# Altium footprint library USB_connectors.PcbLib: 4 footprints
Each footprint in its own frame and in the unit in brackets; x right, y up, seen from the top. Pads: shape width x height; smd on the part's side, far side on the other; paste and mask are expansions set on the pad; w line width, h text height; cw(c..) or ccw(c..) is an arc to the next point about the centre after c.
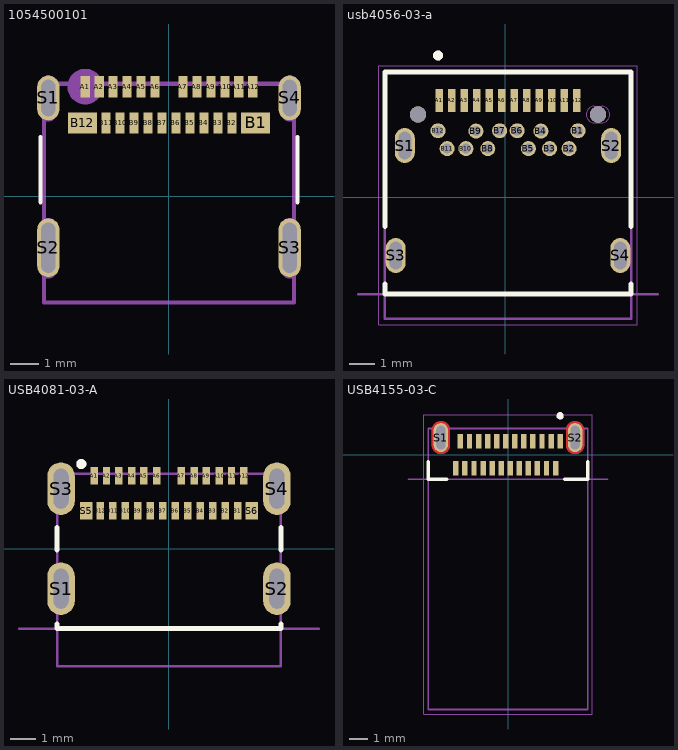
[diagram p0: the footprints below, top view; thin cyan lines are the x and y axes]

## 1054500101 [mil] "molex"
pads (28):
  rect 13x30 smd paste+0 mask+4.02: A1(-117.56,154.44) A2(-97.87,154.44) A3(-78.19,154.44) A4(-58.5,154.44) A5(-38.82,154.44) A6(-19.13,154.44) A7(20.24,154.44) A8(39.92,154.44) A9(59.61,154.44) A10(79.29,154.44) A11(98.98,154.44) A12(118.66,154.44) B2(89.13,103.26) B3(69.45,103.26) B4(49.76,103.26) B5(30.08,103.26) B6(10.39,103.26) B7(-9.29,103.26) B8(-28.98,103.26) B9(-48.66,103.26) B10(-68.35,103.26) B11(-88.03,103.26)
  rect 41x30 smd paste+0 mask+4.02: B1(122.6,103.26) B12(-121.5,103.26)
  oval 31.5x62.99 hole 19.68 slot 51.18 at 90 deg mask+4.02: S1(-169.45,138.49) S4(170.55,138.49)
  oval 31.5x82.68 hole 19.68 slot 70.87 at 90 deg mask+4.02: S2(-169.45,-72.51) S3(170.55,-72.51)
Top Overlay:
  lines w6: -180.45,-8.51 -180.45,83.49 ; 181.55,-8.51 181.55,83.49
Mechanical 1:
  lines w26: -169.45,-102.51 -169.45,-43.51 ; -169.45,118.49 -169.45,157.49 ; 170.55,-102.51 170.55,-43.51 ; 170.55,118.49 170.55,157.49
Mechanical 13:
  lines w6: -175.45,-149.51 176.55,-149.51 176.55,158.49 -175.45,158.49 -175.45,-149.51
  lines w20: -132.45,154.49 ccw(c-117.45,154.49) -102.45,154.49 ccw(c-117.45,154.49) -132.45,154.49
3D body "1054500101--3DModel-STEP-1.STEP": height 125.98, standoff -35.43, extent -175.98,-149.8 175.98,161.22

## usb4056-03-a [mm]
pads (30):
  rect 0.3x0.9 smd: A1(-2.642,3.877) A2(-2.142,3.877) A3(-1.642,3.877) A4(-1.142,3.877) A5(-0.642,3.877) A6(-0.142,3.877) A7(0.358,3.877) A8(0.858,3.877) A9(1.358,3.877) A10(1.858,3.877) A11(2.358,3.877) A12(2.858,3.877)
  round 0.6 hole 0.4: B1(2.908,2.667) B2(2.55,1.95) B3(1.775,1.95) B4(1.425,2.65) B5(0.925,1.95) B6(0.475,2.667) B7(-0.225,2.667) B8(-0.7,1.95) B9(-1.175,2.65) B10(-1.575,1.95) B11(-2.325,1.95) B12(-2.692,2.667)
  oval 0.8x1.4 hole 0.5 slot 1.1 at 90 deg: S1(-4.022,2.077) S2(4.238,2.077) S3(-4.382,-2.323) S4(4.598,-2.323)
  round 0.65 hole 0.65 unplated: ""(-3.492,3.317) ""(3.708,3.317)
Top Overlay:
  circle w0.2: c-2.692,5.677 r0.1
  lines w0.2: -4.817,-3.473 -4.817,-3.873 5.033,-3.873 5.033,-3.473 ; -4.817,-1.173 -4.817,5.017 5.033,5.017 5.033,-1.173
Top Solder:
  region: 3.88,3.741 3.902,3.74 3.924,3.737 3.946,3.733 3.968,3.728 3.989,3.721 4.01,3.714 4.031,3.705 4.051,3.696 4.07,3.685 4.089,3.673 4.108,3.661 4.125,3.647 4.142,3.633 4.159,3.618 4.174,3.601 4.188,3.584 4.202,3.567 4.214,3.548 4.226,3.53 4.237,3.51 4.246,3.49 4.255,3.469 4.262,3.448 4.269,3.427 4.274,3.405 4.278,3.383 4.281,3.361 4.282,3.339 4.283,3.317 4.282,3.295 4.281,3.273 4.278,3.251 4.274,3.229 4.269,3.207 4.262,3.186 4.255,3.165 4.246,3.144 4.237,3.124 4.226,3.105 4.214,3.086 4.202,3.067 4.188,3.05 4.174,3.033 4.159,3.016 4.142,3.001 4.125,2.987 4.108,2.973 4.089,2.961 4.07,2.949 4.051,2.938 4.031,2.929 4.01,2.92 3.989,2.913 3.968,2.906 3.946,2.901 3.924,2.897 3.902,2.894 3.88,2.893 3.858,2.892 3.558,2.892 3.536,2.893 3.514,2.894 3.492,2.897 3.47,2.901 3.448,2.906 3.427,2.913 3.406,2.92 3.385,2.929 3.365,2.938 3.345,2.949 3.327,2.961 3.308,2.973 3.291,2.987 3.274,3.001 3.257,3.016 3.242,3.033 3.228,3.05 3.214,3.067 3.202,3.086 3.19,3.105 3.179,3.124 3.17,3.144 3.161,3.165 3.154,3.186 3.147,3.207 3.142,3.229 3.138,3.251 3.135,3.273 3.134,3.295 3.133,3.317 3.134,3.339 3.135,3.361 3.138,3.383 3.142,3.405 3.147,3.427 3.154,3.448 3.161,3.469 3.17,3.49 3.179,3.51 3.19,3.53 3.202,3.548 3.214,3.567 3.228,3.584 3.242,3.601 3.257,3.618 3.274,3.633 3.291,3.647 3.308,3.661 3.327,3.673 3.345,3.685 3.365,3.696 3.385,3.705 3.406,3.714 3.427,3.721 3.448,3.728 3.47,3.733 3.492,3.737 3.514,3.74 3.536,3.741 3.558,3.742 3.858,3.742
Bottom Solder:
  region: 3.88,3.741 3.902,3.74 3.924,3.737 3.946,3.733 3.968,3.728 3.989,3.721 4.01,3.714 4.031,3.705 4.051,3.696 4.07,3.685 4.089,3.673 4.108,3.661 4.125,3.647 4.142,3.633 4.159,3.618 4.174,3.601 4.188,3.584 4.202,3.567 4.214,3.548 4.226,3.53 4.237,3.51 4.246,3.49 4.255,3.469 4.262,3.448 4.269,3.427 4.274,3.405 4.278,3.383 4.281,3.361 4.282,3.339 4.283,3.317 4.282,3.295 4.281,3.273 4.278,3.251 4.274,3.229 4.269,3.207 4.262,3.186 4.255,3.165 4.246,3.144 4.237,3.124 4.226,3.105 4.214,3.086 4.202,3.067 4.188,3.05 4.174,3.033 4.159,3.016 4.142,3.001 4.125,2.987 4.108,2.973 4.089,2.961 4.07,2.949 4.051,2.938 4.031,2.929 4.01,2.92 3.989,2.913 3.968,2.906 3.946,2.901 3.924,2.897 3.902,2.894 3.88,2.893 3.858,2.892 3.558,2.892 3.536,2.893 3.514,2.894 3.492,2.897 3.47,2.901 3.448,2.906 3.427,2.913 3.406,2.92 3.385,2.929 3.365,2.938 3.345,2.949 3.327,2.961 3.308,2.973 3.291,2.987 3.274,3.001 3.257,3.016 3.242,3.033 3.228,3.05 3.214,3.067 3.202,3.086 3.19,3.105 3.179,3.124 3.17,3.144 3.161,3.165 3.154,3.186 3.147,3.207 3.142,3.229 3.138,3.251 3.135,3.273 3.134,3.295 3.133,3.317 3.134,3.339 3.135,3.361 3.138,3.383 3.142,3.405 3.147,3.427 3.154,3.448 3.161,3.469 3.17,3.49 3.179,3.51 3.19,3.53 3.202,3.548 3.214,3.567 3.228,3.584 3.242,3.601 3.257,3.618 3.274,3.633 3.291,3.647 3.308,3.661 3.327,3.673 3.345,3.685 3.365,3.696 3.385,3.705 3.406,3.714 3.427,3.721 3.448,3.728 3.47,3.733 3.492,3.737 3.514,3.74 3.536,3.741 3.558,3.742 3.858,3.742
Mechanical 1:
  lines w0: 3.233,3.317 ccw(c3.558,3.317) 3.558,2.992 3.858,2.992 ccw(c3.858,3.317) 4.183,3.317 ccw(c3.858,3.317) 3.858,3.642 3.558,3.642 ccw(c3.558,3.317) 3.233,3.317
Mechanical 13:
  circle w0.2: c-2.692,5.677 r0.1
  lines w0.1: -5.892,-3.873 6.108,-3.873 ; -4.817,-4.853 -4.817,5.017 5.033,5.017 5.033,-4.853 -4.817,-4.853
  text "PCB Edge" at 5.608,-3.623 h0.81
Mechanical 15:
  lines w0.05: -5.067,-5.103 -5.067,5.267 5.283,5.267 5.283,-5.103 -5.067,-5.103
3D body "USB4056-03-A--3DModel-STEP-269445.STEP": height 3.31, standoff -1.15, extent -4.8,-4.855 5.05,5.015

## USB4081-03-A [mm] "Type C USB 3.2 Gen 2 Connector"
pads (30):
  rect 0.3x0.7 smd: A1(-2.999,2.921) A2(-2.499,2.921) A3(-1.999,2.921) A4(-1.499,2.921) A5(-0.999,2.921) A6(-0.499,2.921) A7(0.501,2.921) A8(1.001,2.921) A9(1.501,2.921) A10(2.001,2.921) A11(2.501,2.921) A12(3.001,2.921) B1(2.751,1.521) B2(2.251,1.521) B3(1.751,1.521) B4(1.251,1.521) B5(0.751,1.521) B6(0.251,1.521) B7(-0.249,1.521) B8(-0.749,1.521) B9(-1.249,1.521) B10(-1.749,1.521) B11(-2.249,1.521) B12(-2.749,1.521)
  oval 1.1x2.1 hole 0.6 slot 1.6 at 90 deg: S1(-4.319,-1.589) S2(4.321,-1.589) S3(-4.319,2.411) S4(4.321,2.411)
  rect 0.5x0.7 smd: S5(-3.299,1.521) S6(3.301,1.521)
Top Overlay:
  circle w0.2: c-3.507,3.396 r0.1
  lines w0.2: -4.469,-3.009 -4.469,-3.189 4.471,-3.189 4.471,-3.009 ; -4.469,-0.039 -4.469,0.861 ; 4.471,-0.039 4.471,0.861
Mechanical 13:
  circle w0.2: c-3.507,3.396 r0.1
  lines w0.1: -5.999,-3.189 6.001,-3.189 ; -4.469,-4.699 -4.469,3.001 4.471,3.001 4.471,-4.699 -4.469,-4.699
3D body "usb4081-03-a.stp": height 3.26, standoff -1.6, extent -4.47,-4.805 4.47,3

## USB4155-03-C [mm] "USB-C (USB TYPE-C) USB 3.2 Gen 2 (USB 3.1 Gen 2, Superspeed + (USB 3.1)) Plug Connector 24 Position Board Edge, Cutout; Surface Mount; Through Hole, Right Angle"
pads (26):
  rect 0.3x0.8 smd: A1(2.875,0.75) A2(2.375,0.75) A3(1.875,0.75) A4(1.375,0.75) A5(0.875,0.75) A6(0.375,0.75) A7(-0.125,0.75) A8(-0.625,0.75) A9(-1.125,0.75) A10(-1.625,0.75) A11(-2.125,0.75) A12(-2.625,0.75) B1(-2.875,-0.75) B2(-2.375,-0.75) B3(-1.875,-0.75) B4(-1.375,-0.75) B5(-0.875,-0.75) B6(-0.375,-0.75) B7(0.125,-0.75) B8(0.625,-0.75) B9(1.125,-0.75) B10(1.625,-0.75) B11(2.125,-0.75) B12(2.625,-0.75)
  oval 0.8x1.6 hole 0.5 slot 1.3 at 90 deg mask+0: S1(-3.7,0.95) S2(3.7,0.95)
Top Layer:
  region: 3.726,1.849 3.752,1.847 3.778,1.844 3.804,1.839 3.829,1.833 3.855,1.826 3.879,1.817 3.903,1.807 3.927,1.796 3.95,1.783 3.972,1.769 3.994,1.755 4.015,1.739 4.035,1.722 4.054,1.704 4.072,1.685 4.089,1.665 4.105,1.644 4.119,1.622 4.133,1.6 4.146,1.577 4.157,1.553 4.167,1.529 4.176,1.505 4.183,1.479 4.189,1.454 4.194,1.428 4.197,1.402 4.199,1.376 4.2,1.35 4.2,0.55 4.199,0.524 4.197,0.498 4.194,0.472 4.189,0.446 4.183,0.421 4.176,0.395 4.167,0.371 4.157,0.347 4.146,0.323 4.133,0.3 4.119,0.278 4.105,0.256 4.089,0.235 4.072,0.215 4.054,0.196 4.035,0.178 4.015,0.161 3.994,0.145 3.972,0.131 3.95,0.117 3.927,0.104 3.903,0.093 3.879,0.083 3.855,0.074 3.829,0.067 3.804,0.061 3.778,0.056 3.752,0.053 3.726,0.051 3.7,0.05 3.674,0.051 3.648,0.053 3.622,0.056 3.596,0.061 3.571,0.067 3.545,0.074 3.521,0.083 3.497,0.093 3.473,0.104 3.45,0.117 3.428,0.131 3.406,0.145 3.385,0.161 3.365,0.178 3.346,0.196 3.328,0.215 3.311,0.235 3.295,0.256 3.281,0.278 3.267,0.3 3.254,0.323 3.243,0.347 3.233,0.371 3.224,0.395 3.217,0.421 3.211,0.446 3.206,0.472 3.203,0.498 3.201,0.524 3.2,0.55 3.2,1.35 3.201,1.376 3.203,1.402 3.206,1.428 3.211,1.454 3.217,1.479 3.224,1.505 3.233,1.529 3.243,1.553 3.254,1.577 3.267,1.6 3.281,1.622 3.295,1.644 3.311,1.665 3.328,1.685 3.346,1.704 3.365,1.722 3.385,1.739 3.406,1.755 3.428,1.769 3.45,1.783 3.473,1.796 3.497,1.807 3.521,1.817 3.545,1.826 3.571,1.833 3.596,1.839 3.622,1.844 3.648,1.847 3.674,1.849 3.7,1.85
  region: -3.674,1.849 -3.648,1.847 -3.622,1.844 -3.596,1.839 -3.571,1.833 -3.545,1.826 -3.521,1.817 -3.497,1.807 -3.473,1.796 -3.45,1.783 -3.428,1.769 -3.406,1.755 -3.385,1.739 -3.365,1.722 -3.346,1.704 -3.328,1.685 -3.311,1.665 -3.295,1.644 -3.281,1.622 -3.267,1.6 -3.254,1.577 -3.243,1.553 -3.233,1.529 -3.224,1.505 -3.217,1.479 -3.211,1.454 -3.206,1.428 -3.203,1.402 -3.201,1.376 -3.2,1.35 -3.2,0.55 -3.201,0.524 -3.203,0.498 -3.206,0.472 -3.211,0.446 -3.217,0.421 -3.224,0.395 -3.233,0.371 -3.243,0.347 -3.254,0.323 -3.267,0.3 -3.281,0.278 -3.295,0.256 -3.311,0.235 -3.328,0.215 -3.346,0.196 -3.365,0.178 -3.385,0.161 -3.406,0.145 -3.428,0.131 -3.45,0.117 -3.473,0.104 -3.497,0.093 -3.521,0.083 -3.545,0.074 -3.571,0.067 -3.596,0.061 -3.622,0.056 -3.648,0.053 -3.674,0.051 -3.7,0.05 -3.726,0.051 -3.752,0.053 -3.778,0.056 -3.804,0.061 -3.829,0.067 -3.855,0.074 -3.879,0.083 -3.903,0.093 -3.927,0.104 -3.95,0.117 -3.972,0.131 -3.994,0.145 -4.015,0.161 -4.035,0.178 -4.054,0.196 -4.072,0.215 -4.089,0.235 -4.105,0.256 -4.119,0.278 -4.133,0.3 -4.146,0.323 -4.157,0.347 -4.167,0.371 -4.176,0.395 -4.183,0.421 -4.189,0.446 -4.194,0.472 -4.197,0.498 -4.199,0.524 -4.2,0.55 -4.2,1.35 -4.199,1.376 -4.197,1.402 -4.194,1.428 -4.189,1.454 -4.183,1.479 -4.176,1.505 -4.167,1.529 -4.157,1.553 -4.146,1.577 -4.133,1.6 -4.119,1.622 -4.105,1.644 -4.089,1.665 -4.072,1.685 -4.054,1.704 -4.035,1.722 -4.015,1.739 -3.994,1.755 -3.972,1.769 -3.95,1.783 -3.927,1.796 -3.903,1.807 -3.879,1.817 -3.855,1.826 -3.829,1.833 -3.804,1.839 -3.778,1.844 -3.752,1.847 -3.726,1.849 -3.7,1.85
Bottom Layer:
  region: 3.726,1.849 3.752,1.847 3.778,1.844 3.804,1.839 3.829,1.833 3.855,1.826 3.879,1.817 3.903,1.807 3.927,1.796 3.95,1.783 3.972,1.769 3.994,1.755 4.015,1.739 4.035,1.722 4.054,1.704 4.072,1.685 4.089,1.665 4.105,1.644 4.119,1.622 4.133,1.6 4.146,1.577 4.157,1.553 4.167,1.529 4.176,1.505 4.183,1.479 4.189,1.454 4.194,1.428 4.197,1.402 4.199,1.376 4.2,1.35 4.2,0.55 4.199,0.524 4.197,0.498 4.194,0.472 4.189,0.446 4.183,0.421 4.176,0.395 4.167,0.371 4.157,0.347 4.146,0.323 4.133,0.3 4.119,0.278 4.105,0.256 4.089,0.235 4.072,0.215 4.054,0.196 4.035,0.178 4.015,0.161 3.994,0.145 3.972,0.131 3.95,0.117 3.927,0.104 3.903,0.093 3.879,0.083 3.855,0.074 3.829,0.067 3.804,0.061 3.778,0.056 3.752,0.053 3.726,0.051 3.7,0.05 3.674,0.051 3.648,0.053 3.622,0.056 3.596,0.061 3.571,0.067 3.545,0.074 3.521,0.083 3.497,0.093 3.473,0.104 3.45,0.117 3.428,0.131 3.406,0.145 3.385,0.161 3.365,0.178 3.346,0.196 3.328,0.215 3.311,0.235 3.295,0.256 3.281,0.278 3.267,0.3 3.254,0.323 3.243,0.347 3.233,0.371 3.224,0.395 3.217,0.421 3.211,0.446 3.206,0.472 3.203,0.498 3.201,0.524 3.2,0.55 3.2,1.35 3.201,1.376 3.203,1.402 3.206,1.428 3.211,1.454 3.217,1.479 3.224,1.505 3.233,1.529 3.243,1.553 3.254,1.577 3.267,1.6 3.281,1.622 3.295,1.644 3.311,1.665 3.328,1.685 3.346,1.704 3.365,1.722 3.385,1.739 3.406,1.755 3.428,1.769 3.45,1.783 3.473,1.796 3.497,1.807 3.521,1.817 3.545,1.826 3.571,1.833 3.596,1.839 3.622,1.844 3.648,1.847 3.674,1.849 3.7,1.85
  region: -3.674,1.849 -3.648,1.847 -3.622,1.844 -3.596,1.839 -3.571,1.833 -3.545,1.826 -3.521,1.817 -3.497,1.807 -3.473,1.796 -3.45,1.783 -3.428,1.769 -3.406,1.755 -3.385,1.739 -3.365,1.722 -3.346,1.704 -3.328,1.685 -3.311,1.665 -3.295,1.644 -3.281,1.622 -3.267,1.6 -3.254,1.577 -3.243,1.553 -3.233,1.529 -3.224,1.505 -3.217,1.479 -3.211,1.454 -3.206,1.428 -3.203,1.402 -3.201,1.376 -3.2,1.35 -3.2,0.55 -3.201,0.524 -3.203,0.498 -3.206,0.472 -3.211,0.446 -3.217,0.421 -3.224,0.395 -3.233,0.371 -3.243,0.347 -3.254,0.323 -3.267,0.3 -3.281,0.278 -3.295,0.256 -3.311,0.235 -3.328,0.215 -3.346,0.196 -3.365,0.178 -3.385,0.161 -3.406,0.145 -3.428,0.131 -3.45,0.117 -3.473,0.104 -3.497,0.093 -3.521,0.083 -3.545,0.074 -3.571,0.067 -3.596,0.061 -3.622,0.056 -3.648,0.053 -3.674,0.051 -3.7,0.05 -3.726,0.051 -3.752,0.053 -3.778,0.056 -3.804,0.061 -3.829,0.067 -3.855,0.074 -3.879,0.083 -3.903,0.093 -3.927,0.104 -3.95,0.117 -3.972,0.131 -3.994,0.145 -4.015,0.161 -4.035,0.178 -4.054,0.196 -4.072,0.215 -4.089,0.235 -4.105,0.256 -4.119,0.278 -4.133,0.3 -4.146,0.323 -4.157,0.347 -4.167,0.371 -4.176,0.395 -4.183,0.421 -4.189,0.446 -4.194,0.472 -4.197,0.498 -4.199,0.524 -4.2,0.55 -4.2,1.35 -4.199,1.376 -4.197,1.402 -4.194,1.428 -4.189,1.454 -4.183,1.479 -4.176,1.505 -4.167,1.529 -4.157,1.553 -4.146,1.577 -4.133,1.6 -4.119,1.622 -4.105,1.644 -4.089,1.665 -4.072,1.685 -4.054,1.704 -4.035,1.722 -4.015,1.739 -3.994,1.755 -3.972,1.769 -3.95,1.783 -3.927,1.796 -3.903,1.807 -3.879,1.817 -3.855,1.826 -3.829,1.833 -3.804,1.839 -3.778,1.844 -3.752,1.847 -3.726,1.849 -3.7,1.85
Top Overlay:
  circle w0.2: c2.875,2.15 r0.1
  lines w0.2: -4.4,-0.4 -4.4,-1.35 -3.375,-1.35 ; 3.125,-1.35 4.4,-1.35 4.4,-0.4
Top Solder:
  drawing of 2 lines, arcs and shapes, not listed
Bottom Solder:
  drawing of 2 lines, arcs and shapes, not listed
Mechanical 13:
  circle w0.2: c2.875,2.15 r0.1
  lines w0.1: -5.5,-1.35 5.5,-1.35 ; -4.4,-14.05 4.4,-14.05 4.4,1.45 -4.4,1.45 -4.4,-14.05
  text "PCB Edge" at 5,-1.1 h0.81
Mechanical 15:
  lines w0.05: -4.65,-14.3 4.65,-14.3 4.65,2.2 -4.65,2.2 -4.65,-14.3
3D body "USB4155-03-C--3DModel-STEP-1.STEP": height 1.6, standoff -1.3, extent -4.4,-14.05 4.4,1.45